# Altium footprint library Translation_Voltage_Levels.PcbLib: 2 footprints
Each footprint in its own frame and in the unit in brackets; x right, y up, seen from the top. Pads: shape width x height; smd on the part's side, far side on the other; paste and mask are expansions set on the pad; w line width, h text height; cw(c..) or ccw(c..) is an arc to the next point about the centre after c.
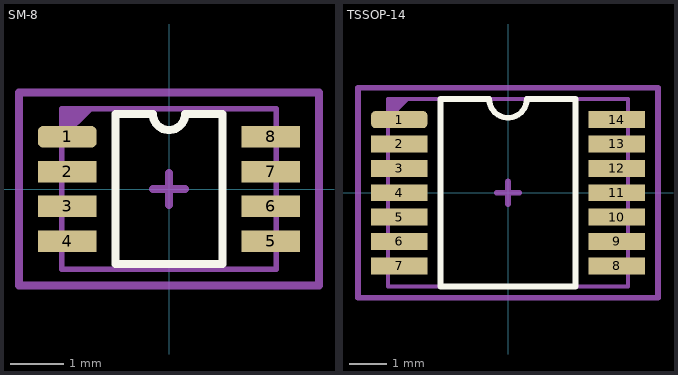
[diagram p0: the footprints below, top view; thin cyan lines are the x and y axes]

## SM-8 [mm]
pads (8):
  rrect50% 1.1x0.4 smd: 1(-1.9,0.975)
  rect 1.1x0.4 smd: 2(-1.9,0.325) 3(-1.9,-0.325) 4(-1.9,-0.975) 5(1.9,-0.975) 6(1.9,-0.325) 7(1.9,0.325) 8(1.9,0.975)
Top Overlay:
  lines w0.153: -1,-1.4 1,-1.4 1,1.4 0.3,1.4 cw(c0,1.4) -0.3,1.4 -1,1.4 -1,-1.4
Top Assembly:
  region: -2,1.5 -2,0.9 -1.4,1.5
  lines w0.1: -2,-1.5 -2,1.5 2,1.5 2,-1.5 -2,-1.5
  text "'.Designator'" at -4.532,-0.333 h0.8
Top Courtyard (Mech6):
  lines w0.153: -0.3,0 0.3,0 ; 0,-0.3 0,0.3 ; -2.8,-1.8 2.8,-1.8 2.8,1.8 -2.8,1.8 -2.8,-1.8
3D body "PCA9306DCTR--3DModel-STEP-1.STEP": height 1.3, standoff 0, extent -2,-1.475 2,1.475

## TSSOP-14 [mm]
pads (14):
  rrect50% 1.5x0.45 smd: 1(-2.9,1.95)
  rect 1.5x0.45 smd: 2(-2.9,1.3) 3(-2.9,0.65) 4(-2.9,0) 5(-2.9,-0.65) 6(-2.9,-1.3) 7(-2.9,-1.95) 8(2.9,-1.95) 9(2.9,-1.3) 10(2.9,-0.65) 11(2.9,0) 12(2.9,0.65) 13(2.9,1.3) 14(2.9,1.95)
Top Overlay:
  lines w0.153: -1.8,-2.5 -1.8,2.5 -0.5,2.5 ccw(c0,2.5) 0.5,2.5 1.8,2.5 1.8,-2.5 -1.8,-2.5
Top Assembly:
  region: -3.2,2.5 -3.2,1.9 -2.6,2.5
  lines w0.1: -3.2,-2.5 3.2,-2.5 3.2,2.5 -3.2,2.5 -3.2,-2.5
  text "'.Designator'" at -4.532,-0.333 h0.8
Top Courtyard (Mech6):
  lines w0.153: -0.3,0 0.3,0 ; 0,-0.3 0,0.3 ; -4,-2.8 4,-2.8 4,2.8 -4,2.8 -4,-2.8
3D body "User Library-TSSOP14-1.step": height 1.1, standoff 0, extent -3.2,-2.5 3.2,2.5